# Altium schematic symbol library LM27313-SOT23_5P.SchLib: 1 symbol
Pins are listed as number, name and electrical type; pins without a type are passive.

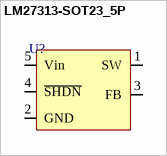
[diagram p0: symbol LM27313-SOT23_5P]

## LM27313-SOT23_5P
designator U?  (value not drawn)
pins: 1 SW, 2 GND, 3 FB, 4 ~{SHDN}, 5 Vin